# Altium integrated library Silicon Labs Clocks and Oscillators.IntLib: 678 symbols (part 3 of 45)
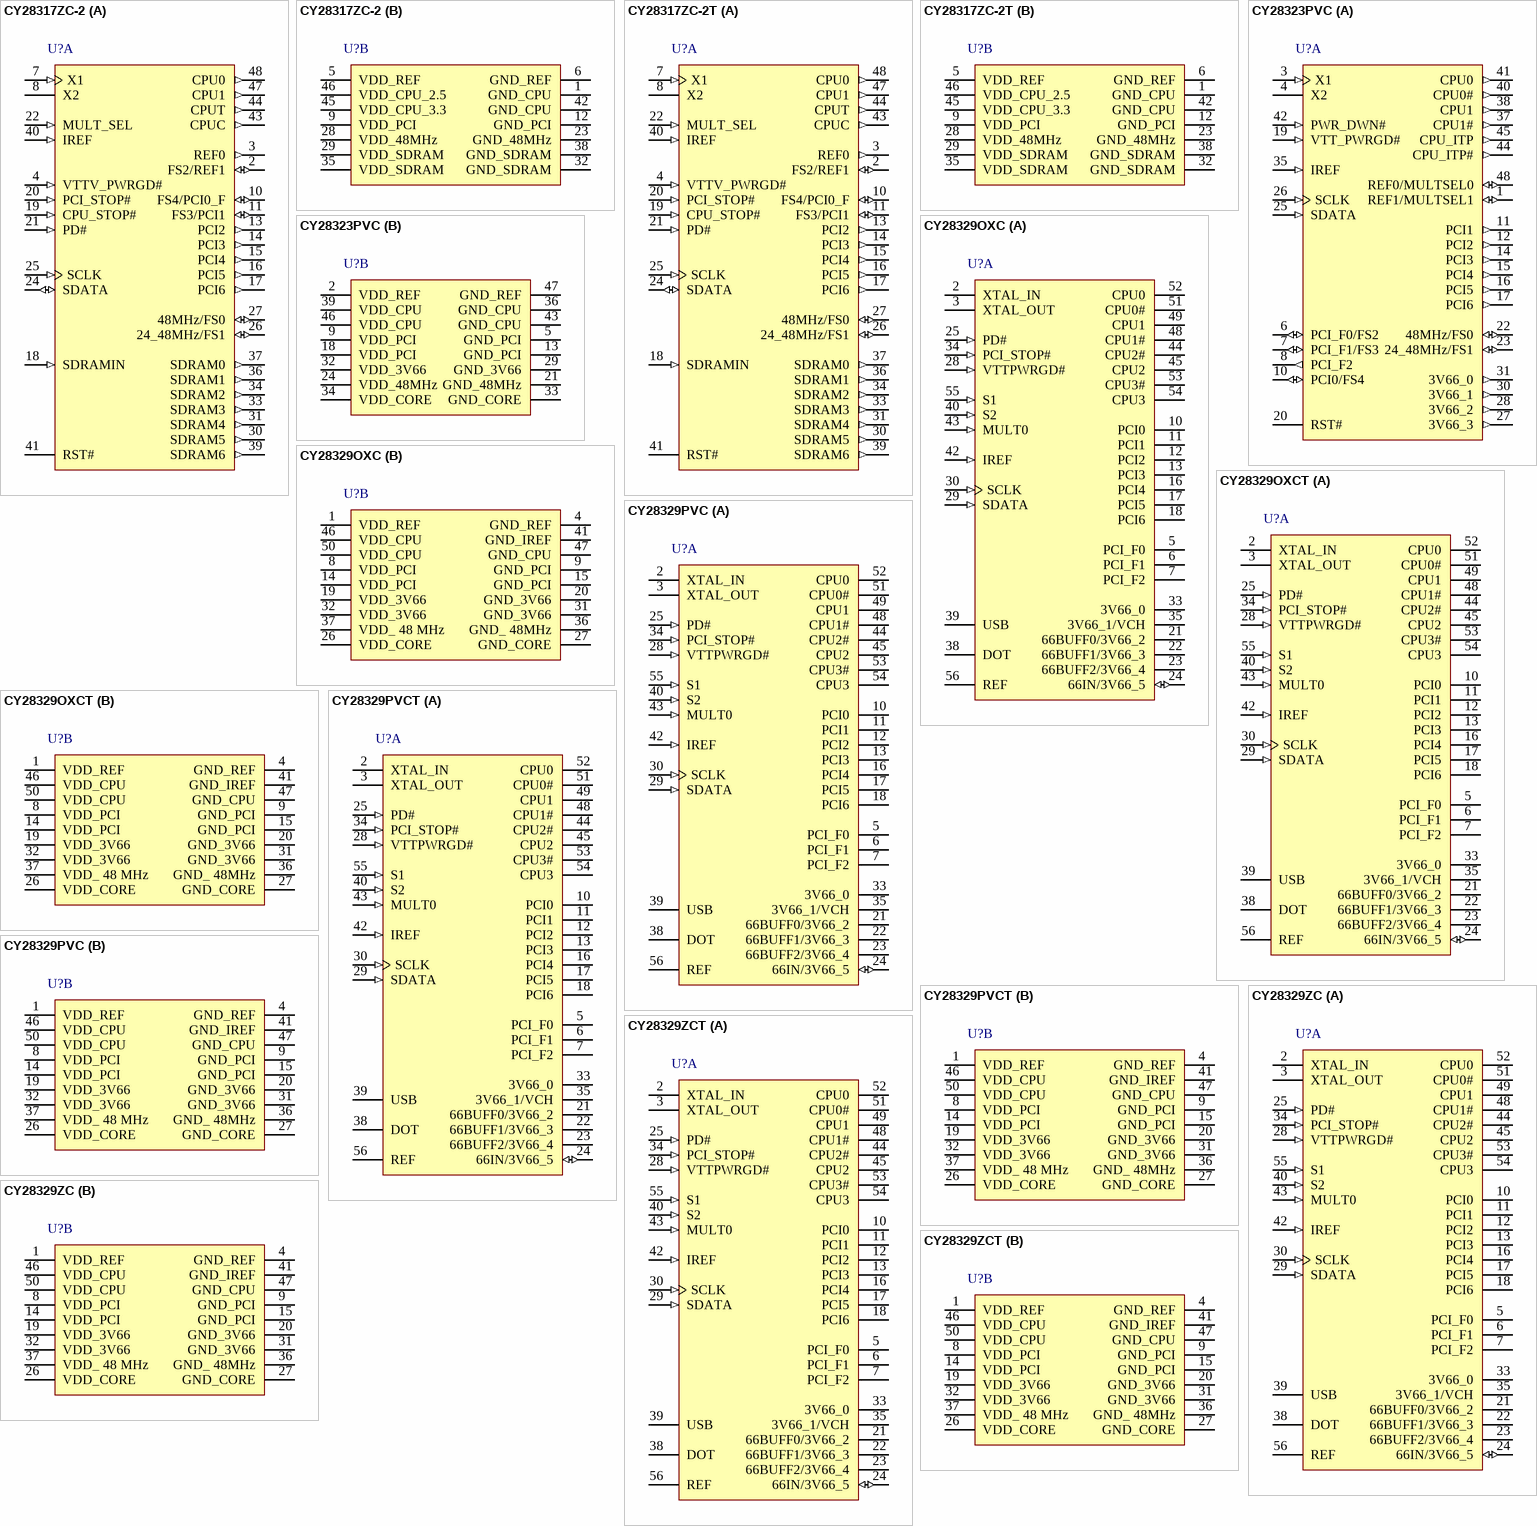
[diagram p46: symbols CY28317ZC-2 to CY28329ZCT]

## CY28323PVC
designator U?
FTG for Intel(R) Pentium(R) 4 CPU and Chipsets, 3.3 V, 200 MHz Max Output, 0 to 70 degC, 48-pin SOP; Manufacturer: Silicon Labs; PartNumber: CY28323PVC; Output Format: LVCMOS; HCSL; Output Frequency (MHz): 14.318; 24; 31.5 to 41; 48; 63 to 82; 66 to 200; Reference Inputs: 1; VDD: 3.3 V; Sub-Family: Clock Generators; DatasheetVersion: Rev. *B; PackageReference: SSOP-48; PackageDescription: 48-Pin Shrink Small-Outline Package, Body 15.875 x 7.51 mm, Pitch 0.635 mm; Mounting Technology: Surface Mount; ComponentLink1Description: Manufacturer URL; ComponentLink1URL: http://www.silabs.com/; ComponentLink2Description: Datasheet; ComponentLink2URL: http://www.silabs.com/Support%20Documents/TechnicalDocs/CY28323.pdf; ComponentLink3Description: Package Specification; ComponentLink3URL: http://www.silabs.com/Support%20Documents/TechnicalDocs/W255.pdf
footprint SLAB-SSOP-48_N (SOP, 48-Leads, Body 16x7.6mm, Pitch 0.635mm, IPC Medium Density)
footprint SLAB-SSOP-48_L (SOP, 48-Leads, Body 16x7.6mm, Pitch 0.635mm, IPC High Density)
footprint SLAB-SSOP-48_M (SOP, 48-Leads, Body 16x7.6mm, Pitch 0.635mm, IPC Low Density)
part A pins: 1 REF1/MULTSEL1 (io), 3 X1 (in) "Crystal Connection or External Reference Frequency Input: This pin has dual functions. It can be used as an external 14.318-MHz crystal connection or as an external reference frequency input.", 4 X2 "Crystal Connection: Connection for an external 14.318-MHz crystal. If using an external reference, this pin must be left unconnected.", 6 PCI_F0/FS2 (io), 7 PCI_F1/FS3 (io), 8 PCI_F2 (out) "Free-running PCI Output 2: 3.3V free-running PCI output.", 10 PCI0/FS4 (io), 11 PCI1 (out) "PCI Clock Output 1 to 6: 3.3V PCI clock outputs.", 12 PCI2 (out) "PCI Clock Output 1 to 6: 3.3V PCI clock outputs.", 14 PCI3 (out) "PCI Clock Output 1 to 6: 3.3V PCI clock outputs.", 15 PCI4 (out) "PCI Clock Output 1 to 6: 3.3V PCI clock outputs.", 16 PCI5 (out) "PCI Clock Output 1 to 6: 3.3V PCI clock outputs.", 17 PCI6 (out) "PCI Clock Output 1 to 6: 3.3V PCI clock outputs.", 19 VTT_PWRGD# (in) "Powergood from Voltage Regulator Module (VRM): 3.3V LVTTL input. VTT_PWRGD# is a level-sensitive strobe used to determine when FS0:4 and MULTSEL0:1 inputs are valid and OK to be sampled (Active LOW). Once VTT_PWRGD# is (See Datasheet)", 20 RST# (oc) "System Reset Output: Open-drain system reset output.", 22 48MHz/FS0 (io), 23 24_48MHz/FS1 (io), 25 SDATA (in) "SMBus Data Input: Data pin for serial interface.", 26 SCLK (in) "SMBus Clock Input: Clock pin for serial interface.", 27 3V66_3 (out) "66-MHz Clock Outputs: 3.3V fixed 66-MHz clock.", 28 3V66_2 (out) "66-MHz Clock Outputs: 3.3V fixed 66-MHz clock.", 30 3V66_1 (out) "66-MHz Clock Outputs: 3.3V fixed 66-MHz clock.", 31 3V66_0 (out) "66-MHz Clock Outputs: 3.3V fixed 66-MHz clock.", 35 IREF (in) "Current Reference for CPU Output: A precision resistor is attached to this pin which is connected to the internal current reference.", 37 CPU1# (out) "CPU Clock Outputs: Frequency is set by the FS0:4 inputs or through serial input interface.", 38 CPU1 (out) "CPU Clock Outputs: Frequency is set by the FS0:4 inputs or through serial input interface.", 40 CPU0# (out) "CPU Clock Outputs: Frequency is set by the FS0:4 inputs or through serial input interface.", 41 CPU0 (out) "CPU Clock Outputs: Frequency is set by the FS0:4 inputs or through serial input interface.", 42 PWR_DWN# (in) "Power Down Control: 3.3V LVTTL-compatible input that places the device in power-down mode when held LOW.", 44 CPU_ITP# (out) "CPU Clock Output for ITP: Frequency is set by the FS0:4 inputs or through serial input interface.", 45 CPU_ITP (out) "CPU Clock Output for ITP: Frequency is set by the FS0:4 inputs or through serial input interface.", 48 REF0/MULTSEL0 (io)
part B pins: 2 VDD_REF (power) "3.3V Power Connection: Power supply for CPU outputs buffers, 3V66 output buffers, PCI output buffers, reference output buffers and 48-MHz output buffers. Connect to 3.3V.", 5 GND_PCI (power) "Ground Connection: Connect all ground pins to the common system ground plane.", 9 VDD_PCI (power), 13 GND_PCI (power) "Ground Connection: Connect all ground pins to the common system ground plane.", 18 VDD_PCI (power) "3.3V Power Connection: Power supply for CPU outputs buffers, 3V66 output buffers, PCI output buffers, reference output buffers and 48-MHz output buffers. Connect to 3.3V.", 21 GND_48MHz (power) "Ground Connection: Connect all ground pins to the common system ground plane.", 24 VDD_48MHz (power) "3.3V Power Connection: Power supply for CPU outputs buffers, 3V66 output buffers, PCI output buffers, reference output buffers and 48-MHz output buffers. Connect to 3.3V.", 29 GND_3V66 (power) "Ground Connection: Connect all ground pins to the common system ground plane.", 32 VDD_3V66 (power) "3.3V Power Connection: Power supply for CPU outputs buffers, 3V66 output buffers, PCI output buffers, reference output buffers and 48-MHz output buffers. Connect to 3.3V.", 33 GND_CORE (power) "Analog Ground Connection: Ground for core logic, PLL circuitry.", 34 VDD_CORE (power) "3.3V Analog Power Connection: Power supply for core logic, PLL circuitry. Connect to 3.3V.", 36 GND_CPU (power) "Ground Connection: Connect all ground pins to the common system ground plane.", 39 VDD_CPU (power) "3.3V Power Connection: Power supply for CPU outputs buffers, 3V66 output buffers, PCI output buffers, reference output buffers and 48-MHz output buffers. Connect to 3.3V.", 43 GND_CPU (power) "Ground Connection: Connect all ground pins to the common system ground plane.", 46 VDD_CPU (power) "3.3V Power Connection: Power supply for CPU outputs buffers, 3V66 output buffers, PCI output buffers, reference output buffers and 48-MHz output buffers. Connect to 3.3V.", 47 GND_REF (power) "Ground Connection: Connect all ground pins to the common system ground plane."

## CY28329OXC
designator U?
Spread Spectrum Clock Synthesizer / Driver with Differential CPU Outputs, 3.3 V, 133 MHz Max Output, 0 to 70 degC, 56-pin SOP; Manufacturer: Silicon Labs; PartNumber: CY28329OXC; Output Format: LVCMOS; HCSL; Output Frequency (MHz): 14.318 ; 33 ; 48 ; 66 ; 100 to 133; Reference Inputs: 1; VDD: 3.3 V; Sub-Family: Clock Generators; DatasheetVersion: Rev. *E; PackageReference: SSOP-56; PackageDescription: 56-Pin Shrink Small-Outline Package, Body 18.415 x 7.51 mm, Pitch 0.635 mm; Supplier 1: Digi-Key; Supplier Part Number 1: SLCY28329OXC-ND; Supplier 2: Mouser; Supplier Part Number 2: 634-CY28329OXC; Mounting Technology: Surface Mount; ComponentLink1Description: Manufacturer URL; ComponentLink1URL: http://www.silabs.com/; ComponentLink2Description: Datasheet; ComponentLink2URL: http://www.silabs.com/Support%20Documents/TechnicalDocs/CY28329.pdf; ComponentLink3Description: Package Specification; ComponentLink3URL: http://www.silabs.com/Support%20Documents/TechnicalDocs/W158.pdf
footprint SLAB-SSOP-56_N (SOP, 56-Leads, Body 18.5x7.6mm, Pitch 0.635mm, IPC Medium Density)
footprint SLAB-SSOP-56_L (SOP, 56-Leads, Body 18.5x7.6mm, Pitch 0.635mm, IPC High Density)
footprint SLAB-SSOP-56_M (SOP, 56-Leads, Body 18.5x7.6mm, Pitch 0.635mm, IPC Low Density)
part A pins: 2 XTAL_IN "14.318 MHz crystal input", 3 XTAL_OUT "14.318 MHz crystal input", 5 PCI_F0 (hiz) "33 MHz clocks divided down from 66Input or divided down from 3V66", 6 PCI_F1 (hiz) "34 MHz clocks divided down from 66Input or divided down from 3V66", 7 PCI_F2 (hiz) "35 MHz clocks divided down from 66Input or divided down from 3V66", 10 PCI0 (hiz) "PCI clock outputs divided down from 66Input or divided down from 3V66", 11 PCI1 (hiz) "PCI clock outputs divided down from 66Input or divided down from 3V66", 12 PCI2 (hiz) "PCI clock outputs divided down from 66Input or divided down from 3V66", 13 PCI3 (hiz) "PCI clock outputs divided down from 66Input or divided down from 3V66", 16 PCI4 (hiz) "PCI clock outputs divided down from 66Input or divided down from 3V66", 17 PCI5 (hiz) "PCI clock outputs divided down from 66Input or divided down from 3V66", 18 PCI6 (hiz) "PCI clock outputs divided down from 66Input or divided down from 3V66", 21 66BUFF0/3V66_2 (hiz), 22 66BUFF1/3V66_3 (hiz), 23 66BUFF2/3V66_4 (hiz), 24 66IN/3V66_5 (io), 25 PD# (in) "3.3V LVTTL input for Power_Down# (active LOW). Do not add any decoupling capacitors. Use an external 1.0-Kohm pull-up resistor.", 28 VTTPWRGD# (in) "3.3V LVTTL input is a level-sensitive strobe used to determine when S[1:2] and MULT0 inputs are valid and OK to be sampled (Active LOW). Once VTTPWRGD# is sampled LOW, the status of this output will be ignored.", 29 SDATA (in) "SMBus-compatible SDATA", 30 SCLK (in) "SMBus-compatible Sclk", 33 3V66_0 (hiz) "3.3V 66 MHz clock output", 34 PCI_STOP# (in) "3.3V LVTTL input for PCI_STOP# (active LOW)", 35 3V66_1/VCH (hiz) "3.3V selectable through SMBus to be 66 MHz or 48 MHz", 38 DOT (hiz) "Fixed 48 MHz clock output", 39 USB (hiz) "Fixed 48 MHz clock output", 40 S2 (in) "Special 3.3V 3-level input for Mode selection", 42 IREF (in) "A precision resistor is attached to this pin which is connected to the internal current reference", 43 MULT0 (in) "3.3V LVTTL input for selecting the current multiplier for the CPU outputs", 44 CPU2# (hiz) "Differential CPU clock outputs", 45 CPU2 (hiz) "Differential CPU clock outputs", 48 CPU1# (hiz) "Differential CPU clock outputs", 49 CPU1 (hiz) "Differential CPU clock outputs", 51 CPU0# (hiz) "Differential CPU clock outputs", 52 CPU0 (hiz) "Differential CPU clock outputs", 53 CPU3# (hiz) "Differential CPU clock outputs", 54 CPU3 (hiz) "Differential CPU clock outputs", 55 S1 (in) "3.3V LVTTL inputs for CPU frequency selection", 56 REF (hiz) "3.3V 14.318 MHz clock output"
part B pins: 1 VDD_REF (power) "3.3V power supply for outputs", 4 GND_REF (power) "Ground for outputs", 8 VDD_PCI (power) "3.3V power supply for outputs", 9 GND_PCI (power) "Ground for outputs", 14 VDD_PCI (power) "3.3V power supply for outputs", 15 GND_PCI (power) "Ground for outputs", 19 VDD_3V66 (power) "3.3V power supply for outputs", 20 GND_3V66 (power) "Ground for outputs", 26 VDD_CORE (power) "3.3V power supply for PLL", 27 GND_CORE (power) "Ground for PLL", 31 GND_3V66 (power) "Ground for outputs", 32 VDD_3V66 (power) "3.3V power supply for outputs", 36 GND_ 48MHz (power) "Ground for outputs", 37 VDD_ 48 MHz (power) "3.3V power supply for outputs", 41 GND_IREF (power) "Ground for outputs", 46 VDD_CPU (power) "3.3V power supply for outputs", 47 GND_CPU (power) "Ground for outputs", 50 VDD_CPU (power) "3.3V power supply for outputs"

## CY28329OXCT
designator U?
Spread Spectrum Clock Synthesizer / Driver with Differential CPU Outputs, 3.3 V, 133 MHz Max Output, 0 to 70 degC, 56-pin SOP, Tape and Reel; Manufacturer: Silicon Labs; PartNumber: CY28329OXCT; Output Format: LVCMOS; HCSL; Output Frequency (MHz): 14.318 ; 33 ; 48 ; 66 ; 100 to 133; Phase Jitter (RMS): > 1 ps; Reference Inputs: 1; VDD: 3.3 V; Sub-Family: Clock Generators; DatasheetVersion: Rev. *E; PackageReference: SSOP-56; PackageDescription: 56-Pin Shrink Small-Outline Package, Body 18.415 x 7.51 mm, Pitch 0.635 mm; Supplier 1: Digi-Key; Supplier Part Number 1: SLCY28329OXCT-ND; Supplier 2: Mouser; Supplier Part Number 2: 634-CY28329OXCT; Packing: Tape and Reel; Mounting Technology: Surface Mount; ComponentLink1Description: Manufacturer URL; ComponentLink1URL: http://www.silabs.com/; ComponentLink2Description: Datasheet; ComponentLink2URL: http://www.silabs.com/Support%20Documents/TechnicalDocs/CY28329.pdf; ComponentLink3Description: Package Specification; ComponentLink3URL: http://www.silabs.com/Support%20Documents/TechnicalDocs/W158.pdf
footprint SLAB-SSOP-56_N (SOP, 56-Leads, Body 18.5x7.6mm, Pitch 0.635mm, IPC Medium Density)
footprint SLAB-SSOP-56_L (SOP, 56-Leads, Body 18.5x7.6mm, Pitch 0.635mm, IPC High Density)
footprint SLAB-SSOP-56_M (SOP, 56-Leads, Body 18.5x7.6mm, Pitch 0.635mm, IPC Low Density)
part A pins: 2 XTAL_IN "14.318 MHz crystal input", 3 XTAL_OUT "14.318 MHz crystal input", 5 PCI_F0 (hiz) "33 MHz clocks divided down from 66Input or divided down from 3V66", 6 PCI_F1 (hiz) "34 MHz clocks divided down from 66Input or divided down from 3V66", 7 PCI_F2 (hiz) "35 MHz clocks divided down from 66Input or divided down from 3V66", 10 PCI0 (hiz) "PCI clock outputs divided down from 66Input or divided down from 3V66", 11 PCI1 (hiz) "PCI clock outputs divided down from 66Input or divided down from 3V66", 12 PCI2 (hiz) "PCI clock outputs divided down from 66Input or divided down from 3V66", 13 PCI3 (hiz) "PCI clock outputs divided down from 66Input or divided down from 3V66", 16 PCI4 (hiz) "PCI clock outputs divided down from 66Input or divided down from 3V66", 17 PCI5 (hiz) "PCI clock outputs divided down from 66Input or divided down from 3V66", 18 PCI6 (hiz) "PCI clock outputs divided down from 66Input or divided down from 3V66", 21 66BUFF0/3V66_2 (hiz), 22 66BUFF1/3V66_3 (hiz), 23 66BUFF2/3V66_4 (hiz), 24 66IN/3V66_5 (io), 25 PD# (in) "3.3V LVTTL input for Power_Down# (active LOW). Do not add any decoupling capacitors. Use an external 1.0-Kohm pull-up resistor.", 28 VTTPWRGD# (in) "3.3V LVTTL input is a level-sensitive strobe used to determine when S[1:2] and MULT0 inputs are valid and OK to be sampled (Active LOW). Once VTTPWRGD# is sampled LOW, the status of this output will be ignored.", 29 SDATA (in) "SMBus-compatible SDATA", 30 SCLK (in) "SMBus-compatible Sclk", 33 3V66_0 (hiz) "3.3V 66 MHz clock output", 34 PCI_STOP# (in) "3.3V LVTTL input for PCI_STOP# (active LOW)", 35 3V66_1/VCH (hiz) "3.3V selectable through SMBus to be 66 MHz or 48 MHz", 38 DOT (hiz) "Fixed 48 MHz clock output", 39 USB (hiz) "Fixed 48 MHz clock output", 40 S2 (in) "Special 3.3V 3-level input for Mode selection", 42 IREF (in) "A precision resistor is attached to this pin which is connected to the internal current reference", 43 MULT0 (in) "3.3V LVTTL input for selecting the current multiplier for the CPU outputs", 44 CPU2# (hiz) "Differential CPU clock outputs", 45 CPU2 (hiz) "Differential CPU clock outputs", 48 CPU1# (hiz) "Differential CPU clock outputs", 49 CPU1 (hiz) "Differential CPU clock outputs", 51 CPU0# (hiz) "Differential CPU clock outputs", 52 CPU0 (hiz) "Differential CPU clock outputs", 53 CPU3# (hiz) "Differential CPU clock outputs", 54 CPU3 (hiz) "Differential CPU clock outputs", 55 S1 (in) "3.3V LVTTL inputs for CPU frequency selection", 56 REF (hiz) "3.3V 14.318 MHz clock output"
part B pins: 1 VDD_REF (power) "3.3V power supply for outputs", 4 GND_REF (power) "Ground for outputs", 8 VDD_PCI (power) "3.3V power supply for outputs", 9 GND_PCI (power) "Ground for outputs", 14 VDD_PCI (power) "3.3V power supply for outputs", 15 GND_PCI (power) "Ground for outputs", 19 VDD_3V66 (power) "3.3V power supply for outputs", 20 GND_3V66 (power) "Ground for outputs", 26 VDD_CORE (power) "3.3V power supply for PLL", 27 GND_CORE (power) "Ground for PLL", 31 GND_3V66 (power) "Ground for outputs", 32 VDD_3V66 (power) "3.3V power supply for outputs", 36 GND_ 48MHz (power) "Ground for outputs", 37 VDD_ 48 MHz (power) "3.3V power supply for outputs", 41 GND_IREF (power) "Ground for outputs", 46 VDD_CPU (power) "3.3V power supply for outputs", 47 GND_CPU (power) "Ground for outputs", 50 VDD_CPU (power) "3.3V power supply for outputs"

## CY28329PVC
designator U?
Spread Spectrum Clock Synthesizer / Driver with Differential CPU Outputs, 3.3 V, 133 MHz Max Output, 0 to 70 degC, 56-pin SOP; Manufacturer: Silicon Labs; PartNumber: CY28329PVC; Output Format: LVCMOS; HCSL; Output Frequency (MHz): 14.318 ; 33 ; 48 ; 66 ; 100 to 133; Reference Inputs: 1; VDD: 3.3 V; Sub-Family: Clock Generators; DatasheetVersion: Rev. *E; PackageReference: SSOP-56; PackageDescription: 56-Pin Shrink Small-Outline Package, Body 18.415 x 7.51 mm, Pitch 0.635 mm; Mounting Technology: Surface Mount; ComponentLink1Description: Manufacturer URL; ComponentLink1URL: http://www.silabs.com/; ComponentLink2Description: Datasheet; ComponentLink2URL: http://www.silabs.com/Support%20Documents/TechnicalDocs/CY28329.pdf; ComponentLink3Description: Package Specification; ComponentLink3URL: http://www.silabs.com/Support%20Documents/TechnicalDocs/W158.pdf
footprint SLAB-SSOP-56_N (SOP, 56-Leads, Body 18.5x7.6mm, Pitch 0.635mm, IPC Medium Density)
footprint SLAB-SSOP-56_L (SOP, 56-Leads, Body 18.5x7.6mm, Pitch 0.635mm, IPC High Density)
footprint SLAB-SSOP-56_M (SOP, 56-Leads, Body 18.5x7.6mm, Pitch 0.635mm, IPC Low Density)
part A pins: 2 XTAL_IN "14.318 MHz crystal input", 3 XTAL_OUT "14.318 MHz crystal input", 5 PCI_F0 (hiz) "33 MHz clocks divided down from 66Input or divided down from 3V66", 6 PCI_F1 (hiz) "34 MHz clocks divided down from 66Input or divided down from 3V66", 7 PCI_F2 (hiz) "35 MHz clocks divided down from 66Input or divided down from 3V66", 10 PCI0 (hiz) "PCI clock outputs divided down from 66Input or divided down from 3V66", 11 PCI1 (hiz) "PCI clock outputs divided down from 66Input or divided down from 3V66", 12 PCI2 (hiz) "PCI clock outputs divided down from 66Input or divided down from 3V66", 13 PCI3 (hiz) "PCI clock outputs divided down from 66Input or divided down from 3V66", 16 PCI4 (hiz) "PCI clock outputs divided down from 66Input or divided down from 3V66", 17 PCI5 (hiz) "PCI clock outputs divided down from 66Input or divided down from 3V66", 18 PCI6 (hiz) "PCI clock outputs divided down from 66Input or divided down from 3V66", 21 66BUFF0/3V66_2 (hiz), 22 66BUFF1/3V66_3 (hiz), 23 66BUFF2/3V66_4 (hiz), 24 66IN/3V66_5 (io), 25 PD# (in) "3.3V LVTTL input for Power_Down# (active LOW). Do not add any decoupling capacitors. Use an external 1.0-Kohm pull-up resistor.", 28 VTTPWRGD# (in) "3.3V LVTTL input is a level-sensitive strobe used to determine when S[1:2] and MULT0 inputs are valid and OK to be sampled (Active LOW). Once VTTPWRGD# is sampled LOW, the status of this output will be ignored.", 29 SDATA (in) "SMBus-compatible SDATA", 30 SCLK (in) "SMBus-compatible Sclk", 33 3V66_0 (hiz) "3.3V 66 MHz clock output", 34 PCI_STOP# (in) "3.3V LVTTL input for PCI_STOP# (active LOW)", 35 3V66_1/VCH (hiz) "3.3V selectable through SMBus to be 66 MHz or 48 MHz", 38 DOT (hiz) "Fixed 48 MHz clock output", 39 USB (hiz) "Fixed 48 MHz clock output", 40 S2 (in) "Special 3.3V 3-level input for Mode selection", 42 IREF (in) "A precision resistor is attached to this pin which is connected to the internal current reference", 43 MULT0 (in) "3.3V LVTTL input for selecting the current multiplier for the CPU outputs", 44 CPU2# (hiz) "Differential CPU clock outputs", 45 CPU2 (hiz) "Differential CPU clock outputs", 48 CPU1# (hiz) "Differential CPU clock outputs", 49 CPU1 (hiz) "Differential CPU clock outputs", 51 CPU0# (hiz) "Differential CPU clock outputs", 52 CPU0 (hiz) "Differential CPU clock outputs", 53 CPU3# (hiz) "Differential CPU clock outputs", 54 CPU3 (hiz) "Differential CPU clock outputs", 55 S1 (in) "3.3V LVTTL inputs for CPU frequency selection", 56 REF (hiz) "3.3V 14.318 MHz clock output"
part B pins: 1 VDD_REF (power) "3.3V power supply for outputs", 4 GND_REF (power) "Ground for outputs", 8 VDD_PCI (power) "3.3V power supply for outputs", 9 GND_PCI (power) "Ground for outputs", 14 VDD_PCI (power) "3.3V power supply for outputs", 15 GND_PCI (power) "Ground for outputs", 19 VDD_3V66 (power) "3.3V power supply for outputs", 20 GND_3V66 (power) "Ground for outputs", 26 VDD_CORE (power) "3.3V power supply for PLL", 27 GND_CORE (power) "Ground for PLL", 31 GND_3V66 (power) "Ground for outputs", 32 VDD_3V66 (power) "3.3V power supply for outputs", 36 GND_ 48MHz (power) "Ground for outputs", 37 VDD_ 48 MHz (power) "3.3V power supply for outputs", 41 GND_IREF (power) "Ground for outputs", 46 VDD_CPU (power) "3.3V power supply for outputs", 47 GND_CPU (power) "Ground for outputs", 50 VDD_CPU (power) "3.3V power supply for outputs"

## CY28329PVCT
designator U?
Spread Spectrum Clock Synthesizer / Driver with Differential CPU Outputs, 3.3 V, 133 MHz Max Output, 0 to 70 degC, 56-pin SOP, Tape and Reel; Manufacturer: Silicon Labs; PartNumber: CY28329PVCT; Output Format: LVCMOS; HCSL; Output Frequency (MHz): 14.318 ; 33 ; 48 ; 66 ; 100 to 133; Phase Jitter (RMS): > 1 ps; Reference Inputs: 1; VDD: 3.3 V; Sub-Family: Clock Generators; DatasheetVersion: Rev. *E; PackageReference: SSOP-56; PackageDescription: 56-Pin Shrink Small-Outline Package, Body 18.415 x 7.51 mm, Pitch 0.635 mm; Packing: Tape and Reel; Mounting Technology: Surface Mount; ComponentLink1Description: Manufacturer URL; ComponentLink1URL: http://www.silabs.com/; ComponentLink2Description: Datasheet; ComponentLink2URL: http://www.silabs.com/Support%20Documents/TechnicalDocs/CY28329.pdf; ComponentLink3Description: Package Specification; ComponentLink3URL: http://www.silabs.com/Support%20Documents/TechnicalDocs/W158.pdf
footprint SLAB-SSOP-56_N (SOP, 56-Leads, Body 18.5x7.6mm, Pitch 0.635mm, IPC Medium Density)
footprint SLAB-SSOP-56_L (SOP, 56-Leads, Body 18.5x7.6mm, Pitch 0.635mm, IPC High Density)
footprint SLAB-SSOP-56_M (SOP, 56-Leads, Body 18.5x7.6mm, Pitch 0.635mm, IPC Low Density)
part A pins: 2 XTAL_IN "14.318 MHz crystal input", 3 XTAL_OUT "14.318 MHz crystal input", 5 PCI_F0 (hiz) "33 MHz clocks divided down from 66Input or divided down from 3V66", 6 PCI_F1 (hiz) "34 MHz clocks divided down from 66Input or divided down from 3V66", 7 PCI_F2 (hiz) "35 MHz clocks divided down from 66Input or divided down from 3V66", 10 PCI0 (hiz) "PCI clock outputs divided down from 66Input or divided down from 3V66", 11 PCI1 (hiz) "PCI clock outputs divided down from 66Input or divided down from 3V66", 12 PCI2 (hiz) "PCI clock outputs divided down from 66Input or divided down from 3V66", 13 PCI3 (hiz) "PCI clock outputs divided down from 66Input or divided down from 3V66", 16 PCI4 (hiz) "PCI clock outputs divided down from 66Input or divided down from 3V66", 17 PCI5 (hiz) "PCI clock outputs divided down from 66Input or divided down from 3V66", 18 PCI6 (hiz) "PCI clock outputs divided down from 66Input or divided down from 3V66", 21 66BUFF0/3V66_2 (hiz), 22 66BUFF1/3V66_3 (hiz), 23 66BUFF2/3V66_4 (hiz), 24 66IN/3V66_5 (io), 25 PD# (in) "3.3V LVTTL input for Power_Down# (active LOW). Do not add any decoupling capacitors. Use an external 1.0-Kohm pull-up resistor.", 28 VTTPWRGD# (in) "3.3V LVTTL input is a level-sensitive strobe used to determine when S[1:2] and MULT0 inputs are valid and OK to be sampled (Active LOW). Once VTTPWRGD# is sampled LOW, the status of this output will be ignored.", 29 SDATA (in) "SMBus-compatible SDATA", 30 SCLK (in) "SMBus-compatible Sclk", 33 3V66_0 (hiz) "3.3V 66 MHz clock output", 34 PCI_STOP# (in) "3.3V LVTTL input for PCI_STOP# (active LOW)", 35 3V66_1/VCH (hiz) "3.3V selectable through SMBus to be 66 MHz or 48 MHz", 38 DOT (hiz) "Fixed 48 MHz clock output", 39 USB (hiz) "Fixed 48 MHz clock output", 40 S2 (in) "Special 3.3V 3-level input for Mode selection", 42 IREF (in) "A precision resistor is attached to this pin which is connected to the internal current reference", 43 MULT0 (in) "3.3V LVTTL input for selecting the current multiplier for the CPU outputs", 44 CPU2# (hiz) "Differential CPU clock outputs", 45 CPU2 (hiz) "Differential CPU clock outputs", 48 CPU1# (hiz) "Differential CPU clock outputs", 49 CPU1 (hiz) "Differential CPU clock outputs", 51 CPU0# (hiz) "Differential CPU clock outputs", 52 CPU0 (hiz) "Differential CPU clock outputs", 53 CPU3# (hiz) "Differential CPU clock outputs", 54 CPU3 (hiz) "Differential CPU clock outputs", 55 S1 (in) "3.3V LVTTL inputs for CPU frequency selection", 56 REF (hiz) "3.3V 14.318 MHz clock output"
part B pins: 1 VDD_REF (power) "3.3V power supply for outputs", 4 GND_REF (power) "Ground for outputs", 8 VDD_PCI (power) "3.3V power supply for outputs", 9 GND_PCI (power) "Ground for outputs", 14 VDD_PCI (power) "3.3V power supply for outputs", 15 GND_PCI (power) "Ground for outputs", 19 VDD_3V66 (power) "3.3V power supply for outputs", 20 GND_3V66 (power) "Ground for outputs", 26 VDD_CORE (power) "3.3V power supply for PLL", 27 GND_CORE (power) "Ground for PLL", 31 GND_3V66 (power) "Ground for outputs", 32 VDD_3V66 (power) "3.3V power supply for outputs", 36 GND_ 48MHz (power) "Ground for outputs", 37 VDD_ 48 MHz (power) "3.3V power supply for outputs", 41 GND_IREF (power) "Ground for outputs", 46 VDD_CPU (power) "3.3V power supply for outputs", 47 GND_CPU (power) "Ground for outputs", 50 VDD_CPU (power) "3.3V power supply for outputs"

## CY28329ZC
designator U?
Spread Spectrum Clock Synthesizer / Driver with Differential CPU Outputs, 3.3 V, 133 MHz Max Output, 0 to 70 degC, 56-pin SOP; Manufacturer: Silicon Labs; PartNumber: CY28329ZC; Output Format: LVCMOS; HCSL; Output Frequency (MHz): 14.318 ; 33 ; 48 ; 66 ; 100 to 133; Reference Inputs: 1; VDD: 3.3 V; Sub-Family: Clock Generators; DatasheetVersion: Rev. *E; PackageReference: TSSOP-56; PackageDescription: 56-Pin Thin Shrink Small-Outline Package, Body 14 x 6.1 mm, Pitch 0.5 mm; Mounting Technology: Surface Mount; Code_JEDEC: MO-153; ComponentLink1Description: Manufacturer URL; ComponentLink1URL: http://www.silabs.com/; ComponentLink2Description: Datasheet; ComponentLink2URL: http://www.silabs.com/Support%20Documents/TechnicalDocs/CY28329.pdf; ComponentLink3Description: Package Specification; ComponentLink3URL: http://www.silabs.com/Support%20Documents/TechnicalDocs/CY28346-2.pdf
footprint SLAB-TSSOP-56_N (SOP, 56-Leads, Body 14.1x6.2mm, Pitch 0.5mm, IPC Medium Density)
footprint SLAB-TSSOP-56_L (SOP, 56-Leads, Body 14.1x6.2mm, Pitch 0.5mm, IPC High Density)
footprint SLAB-TSSOP-56_M (SOP, 56-Leads, Body 14.1x6.2mm, Pitch 0.5mm, IPC Low Density)
part A pins: 2 XTAL_IN "14.318 MHz crystal input", 3 XTAL_OUT "14.318 MHz crystal input", 5 PCI_F0 (hiz) "33 MHz clocks divided down from 66Input or divided down from 3V66", 6 PCI_F1 (hiz) "34 MHz clocks divided down from 66Input or divided down from 3V66", 7 PCI_F2 (hiz) "35 MHz clocks divided down from 66Input or divided down from 3V66", 10 PCI0 (hiz) "PCI clock outputs divided down from 66Input or divided down from 3V66", 11 PCI1 (hiz) "PCI clock outputs divided down from 66Input or divided down from 3V66", 12 PCI2 (hiz) "PCI clock outputs divided down from 66Input or divided down from 3V66", 13 PCI3 (hiz) "PCI clock outputs divided down from 66Input or divided down from 3V66", 16 PCI4 (hiz) "PCI clock outputs divided down from 66Input or divided down from 3V66", 17 PCI5 (hiz) "PCI clock outputs divided down from 66Input or divided down from 3V66", 18 PCI6 (hiz) "PCI clock outputs divided down from 66Input or divided down from 3V66", 21 66BUFF0/3V66_2 (hiz), 22 66BUFF1/3V66_3 (hiz), 23 66BUFF2/3V66_4 (hiz), 24 66IN/3V66_5 (io), 25 PD# (in) "3.3V LVTTL input for Power_Down# (active LOW). Do not add any decoupling capacitors. Use an external 1.0-Kohm pull-up resistor.", 28 VTTPWRGD# (in) "3.3V LVTTL input is a level-sensitive strobe used to determine when S[1:2] and MULT0 inputs are valid and OK to be sampled (Active LOW). Once VTTPWRGD# is sampled LOW, the status of this output will be ignored.", 29 SDATA (in) "SMBus-compatible SDATA", 30 SCLK (in) "SMBus-compatible Sclk", 33 3V66_0 (hiz) "3.3V 66 MHz clock output", 34 PCI_STOP# (in) "3.3V LVTTL input for PCI_STOP# (active LOW)", 35 3V66_1/VCH (hiz) "3.3V selectable through SMBus to be 66 MHz or 48 MHz", 38 DOT (hiz) "Fixed 48 MHz clock output", 39 USB (hiz) "Fixed 48 MHz clock output", 40 S2 (in) "Special 3.3V 3-level input for Mode selection", 42 IREF (in) "A precision resistor is attached to this pin which is connected to the internal current reference", 43 MULT0 (in) "3.3V LVTTL input for selecting the current multiplier for the CPU outputs", 44 CPU2# (hiz) "Differential CPU clock outputs", 45 CPU2 (hiz) "Differential CPU clock outputs", 48 CPU1# (hiz) "Differential CPU clock outputs", 49 CPU1 (hiz) "Differential CPU clock outputs", 51 CPU0# (hiz) "Differential CPU clock outputs", 52 CPU0 (hiz) "Differential CPU clock outputs", 53 CPU3# (hiz) "Differential CPU clock outputs", 54 CPU3 (hiz) "Differential CPU clock outputs", 55 S1 (in) "3.3V LVTTL inputs for CPU frequency selection", 56 REF (hiz) "3.3V 14.318 MHz clock output"
part B pins: 1 VDD_REF (power) "3.3V power supply for outputs", 4 GND_REF (power) "Ground for outputs", 8 VDD_PCI (power) "3.3V power supply for outputs", 9 GND_PCI (power) "Ground for outputs", 14 VDD_PCI (power) "3.3V power supply for outputs", 15 GND_PCI (power) "Ground for outputs", 19 VDD_3V66 (power) "3.3V power supply for outputs", 20 GND_3V66 (power) "Ground for outputs", 26 VDD_CORE (power) "3.3V power supply for PLL", 27 GND_CORE (power) "Ground for PLL", 31 GND_3V66 (power) "Ground for outputs", 32 VDD_3V66 (power) "3.3V power supply for outputs", 36 GND_ 48MHz (power) "Ground for outputs", 37 VDD_ 48 MHz (power) "3.3V power supply for outputs", 41 GND_IREF (power) "Ground for outputs", 46 VDD_CPU (power) "3.3V power supply for outputs", 47 GND_CPU (power) "Ground for outputs", 50 VDD_CPU (power) "3.3V power supply for outputs"

## CY28329ZCT
designator U?
Spread Spectrum Clock Synthesizer / Driver with Differential CPU Outputs, 3.3 V, 133 MHz Max Output, 0 to 70 degC, 56-pin SOP, Tape and Reel; Manufacturer: Silicon Labs; PartNumber: CY28329ZCT; Output Format: LVCMOS; HCSL; Output Frequency (MHz): 14.318 ; 33 ; 48 ; 66 ; 100 to 133; Phase Jitter (RMS): > 1 ps; Reference Inputs: 1; VDD: 3.3 V; Sub-Family: Clock Generators; DatasheetVersion: Rev. *E; PackageReference: TSSOP-56; PackageDescription: 56-Pin Thin Shrink Small-Outline Package, Body 14 x 6.1 mm, Pitch 0.5 mm; Packing: Tape and Reel; Mounting Technology: Surface Mount; Code_JEDEC: MO-153; ComponentLink1Description: Manufacturer URL; ComponentLink1URL: http://www.silabs.com/; ComponentLink2Description: Datasheet; ComponentLink2URL: http://www.silabs.com/Support%20Documents/TechnicalDocs/CY28329.pdf; ComponentLink3Description: Package Specification; ComponentLink3URL: http://www.silabs.com/Support%20Documents/TechnicalDocs/CY28346-2.pdf
footprint SLAB-TSSOP-56_N (SOP, 56-Leads, Body 14.1x6.2mm, Pitch 0.5mm, IPC Medium Density)
footprint SLAB-TSSOP-56_L (SOP, 56-Leads, Body 14.1x6.2mm, Pitch 0.5mm, IPC High Density)
footprint SLAB-TSSOP-56_M (SOP, 56-Leads, Body 14.1x6.2mm, Pitch 0.5mm, IPC Low Density)
part A pins: 2 XTAL_IN "14.318 MHz crystal input", 3 XTAL_OUT "14.318 MHz crystal input", 5 PCI_F0 (hiz) "33 MHz clocks divided down from 66Input or divided down from 3V66", 6 PCI_F1 (hiz) "34 MHz clocks divided down from 66Input or divided down from 3V66", 7 PCI_F2 (hiz) "35 MHz clocks divided down from 66Input or divided down from 3V66", 10 PCI0 (hiz) "PCI clock outputs divided down from 66Input or divided down from 3V66", 11 PCI1 (hiz) "PCI clock outputs divided down from 66Input or divided down from 3V66", 12 PCI2 (hiz) "PCI clock outputs divided down from 66Input or divided down from 3V66", 13 PCI3 (hiz) "PCI clock outputs divided down from 66Input or divided down from 3V66", 16 PCI4 (hiz) "PCI clock outputs divided down from 66Input or divided down from 3V66", 17 PCI5 (hiz) "PCI clock outputs divided down from 66Input or divided down from 3V66", 18 PCI6 (hiz) "PCI clock outputs divided down from 66Input or divided down from 3V66", 21 66BUFF0/3V66_2 (hiz), 22 66BUFF1/3V66_3 (hiz), 23 66BUFF2/3V66_4 (hiz), 24 66IN/3V66_5 (io), 25 PD# (in) "3.3V LVTTL input for Power_Down# (active LOW). Do not add any decoupling capacitors. Use an external 1.0-Kohm pull-up resistor.", 28 VTTPWRGD# (in) "3.3V LVTTL input is a level-sensitive strobe used to determine when S[1:2] and MULT0 inputs are valid and OK to be sampled (Active LOW). Once VTTPWRGD# is sampled LOW, the status of this output will be ignored.", 29 SDATA (in) "SMBus-compatible SDATA", 30 SCLK (in) "SMBus-compatible Sclk", 33 3V66_0 (hiz) "3.3V 66 MHz clock output", 34 PCI_STOP# (in) "3.3V LVTTL input for PCI_STOP# (active LOW)", 35 3V66_1/VCH (hiz) "3.3V selectable through SMBus to be 66 MHz or 48 MHz", 38 DOT (hiz) "Fixed 48 MHz clock output", 39 USB (hiz) "Fixed 48 MHz clock output", 40 S2 (in) "Special 3.3V 3-level input for Mode selection", 42 IREF (in) "A precision resistor is attached to this pin which is connected to the internal current reference", 43 MULT0 (in) "3.3V LVTTL input for selecting the current multiplier for the CPU outputs", 44 CPU2# (hiz) "Differential CPU clock outputs", 45 CPU2 (hiz) "Differential CPU clock outputs", 48 CPU1# (hiz) "Differential CPU clock outputs", 49 CPU1 (hiz) "Differential CPU clock outputs", 51 CPU0# (hiz) "Differential CPU clock outputs", 52 CPU0 (hiz) "Differential CPU clock outputs", 53 CPU3# (hiz) "Differential CPU clock outputs", 54 CPU3 (hiz) "Differential CPU clock outputs", 55 S1 (in) "3.3V LVTTL inputs for CPU frequency selection", 56 REF (hiz) "3.3V 14.318 MHz clock output"
part B pins: 1 VDD_REF (power) "3.3V power supply for outputs", 4 GND_REF (power) "Ground for outputs", 8 VDD_PCI (power) "3.3V power supply for outputs", 9 GND_PCI (power) "Ground for outputs", 14 VDD_PCI (power) "3.3V power supply for outputs", 15 GND_PCI (power) "Ground for outputs", 19 VDD_3V66 (power) "3.3V power supply for outputs", 20 GND_3V66 (power) "Ground for outputs", 26 VDD_CORE (power) "3.3V power supply for PLL", 27 GND_CORE (power) "Ground for PLL", 31 GND_3V66 (power) "Ground for outputs", 32 VDD_3V66 (power) "3.3V power supply for outputs", 36 GND_ 48MHz (power) "Ground for outputs", 37 VDD_ 48 MHz (power) "3.3V power supply for outputs", 41 GND_IREF (power) "Ground for outputs", 46 VDD_CPU (power) "3.3V power supply for outputs", 47 GND_CPU (power) "Ground for outputs", 50 VDD_CPU (power) "3.3V power supply for outputs"

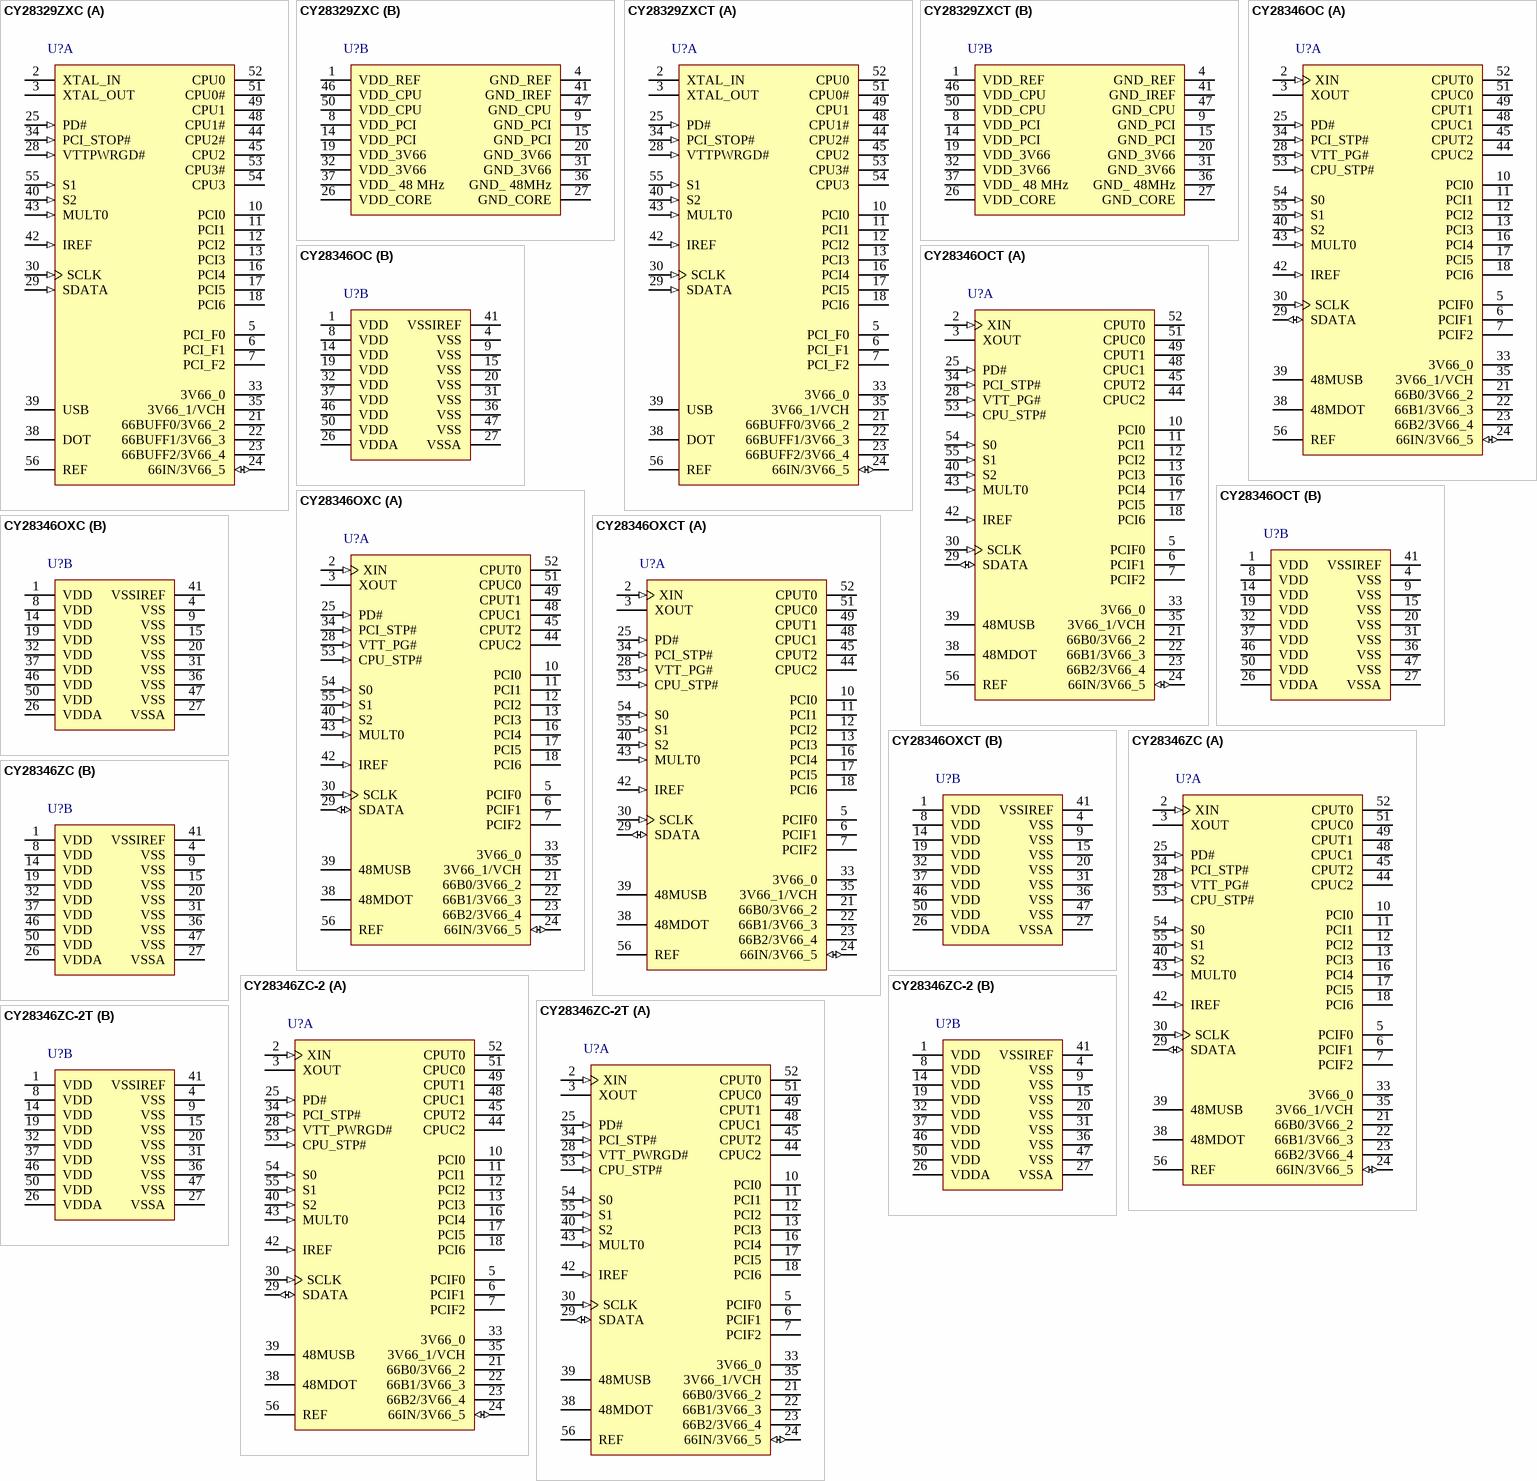
[diagram p3: symbols CY28329ZXC to CY28346ZC-2T]

## CY28329ZXC
designator U?
Spread Spectrum Clock Synthesizer / Driver with Differential CPU Outputs, 3.3 V, 133 MHz Max Output, 0 to 70 degC, 56-pin SOP; Manufacturer: Silicon Labs; PartNumber: CY28329ZXC; Output Format: LVCMOS; HCSL; Output Frequency (MHz): 14.318 ; 33 ; 48 ; 66 ; 100 to 133; Reference Inputs: 1; VDD: 3.3 V; Sub-Family: Clock Generators; DatasheetVersion: Rev. *E; PackageReference: TSSOP-56; PackageDescription: 56-Pin Thin Shrink Small-Outline Package, Body 14 x 6.1 mm, Pitch 0.5 mm; Supplier 1: Digi-Key; Supplier Part Number 1: SLCY28329ZXC-ND; Supplier 2: Mouser; Supplier Part Number 2: 634-CY28329ZXC; Mounting Technology: Surface Mount; Code_JEDEC: MO-153; ComponentLink1Description: Manufacturer URL; ComponentLink1URL: http://www.silabs.com/; ComponentLink2Description: Datasheet; ComponentLink2URL: http://www.silabs.com/Support%20Documents/TechnicalDocs/CY28329.pdf; ComponentLink3Description: Package Specification; ComponentLink3URL: http://www.silabs.com/Support%20Documents/TechnicalDocs/CY28346-2.pdf
footprint SLAB-TSSOP-56_N (SOP, 56-Leads, Body 14.1x6.2mm, Pitch 0.5mm, IPC Medium Density)
footprint SLAB-TSSOP-56_L (SOP, 56-Leads, Body 14.1x6.2mm, Pitch 0.5mm, IPC High Density)
footprint SLAB-TSSOP-56_M (SOP, 56-Leads, Body 14.1x6.2mm, Pitch 0.5mm, IPC Low Density)
part A pins: 2 XTAL_IN "14.318 MHz crystal input", 3 XTAL_OUT "14.318 MHz crystal input", 5 PCI_F0 (hiz) "33 MHz clocks divided down from 66Input or divided down from 3V66", 6 PCI_F1 (hiz) "34 MHz clocks divided down from 66Input or divided down from 3V66", 7 PCI_F2 (hiz) "35 MHz clocks divided down from 66Input or divided down from 3V66", 10 PCI0 (hiz) "PCI clock outputs divided down from 66Input or divided down from 3V66", 11 PCI1 (hiz) "PCI clock outputs divided down from 66Input or divided down from 3V66", 12 PCI2 (hiz) "PCI clock outputs divided down from 66Input or divided down from 3V66", 13 PCI3 (hiz) "PCI clock outputs divided down from 66Input or divided down from 3V66", 16 PCI4 (hiz) "PCI clock outputs divided down from 66Input or divided down from 3V66", 17 PCI5 (hiz) "PCI clock outputs divided down from 66Input or divided down from 3V66", 18 PCI6 (hiz) "PCI clock outputs divided down from 66Input or divided down from 3V66", 21 66BUFF0/3V66_2 (hiz), 22 66BUFF1/3V66_3 (hiz), 23 66BUFF2/3V66_4 (hiz), 24 66IN/3V66_5 (io), 25 PD# (in) "3.3V LVTTL input for Power_Down# (active LOW). Do not add any decoupling capacitors. Use an external 1.0-Kohm pull-up resistor.", 28 VTTPWRGD# (in) "3.3V LVTTL input is a level-sensitive strobe used to determine when S[1:2] and MULT0 inputs are valid and OK to be sampled (Active LOW). Once VTTPWRGD# is sampled LOW, the status of this output will be ignored.", 29 SDATA (in) "SMBus-compatible SDATA", 30 SCLK (in) "SMBus-compatible Sclk", 33 3V66_0 (hiz) "3.3V 66 MHz clock output", 34 PCI_STOP# (in) "3.3V LVTTL input for PCI_STOP# (active LOW)", 35 3V66_1/VCH (hiz) "3.3V selectable through SMBus to be 66 MHz or 48 MHz", 38 DOT (hiz) "Fixed 48 MHz clock output", 39 USB (hiz) "Fixed 48 MHz clock output", 40 S2 (in) "Special 3.3V 3-level input for Mode selection", 42 IREF (in) "A precision resistor is attached to this pin which is connected to the internal current reference", 43 MULT0 (in) "3.3V LVTTL input for selecting the current multiplier for the CPU outputs", 44 CPU2# (hiz) "Differential CPU clock outputs", 45 CPU2 (hiz) "Differential CPU clock outputs", 48 CPU1# (hiz) "Differential CPU clock outputs", 49 CPU1 (hiz) "Differential CPU clock outputs", 51 CPU0# (hiz) "Differential CPU clock outputs", 52 CPU0 (hiz) "Differential CPU clock outputs", 53 CPU3# (hiz) "Differential CPU clock outputs", 54 CPU3 (hiz) "Differential CPU clock outputs", 55 S1 (in) "3.3V LVTTL inputs for CPU frequency selection", 56 REF (hiz) "3.3V 14.318 MHz clock output"
part B pins: 1 VDD_REF (power) "3.3V power supply for outputs", 4 GND_REF (power) "Ground for outputs", 8 VDD_PCI (power) "3.3V power supply for outputs", 9 GND_PCI (power) "Ground for outputs", 14 VDD_PCI (power) "3.3V power supply for outputs", 15 GND_PCI (power) "Ground for outputs", 19 VDD_3V66 (power) "3.3V power supply for outputs", 20 GND_3V66 (power) "Ground for outputs", 26 VDD_CORE (power) "3.3V power supply for PLL", 27 GND_CORE (power) "Ground for PLL", 31 GND_3V66 (power) "Ground for outputs", 32 VDD_3V66 (power) "3.3V power supply for outputs", 36 GND_ 48MHz (power) "Ground for outputs", 37 VDD_ 48 MHz (power) "3.3V power supply for outputs", 41 GND_IREF (power) "Ground for outputs", 46 VDD_CPU (power) "3.3V power supply for outputs", 47 GND_CPU (power) "Ground for outputs", 50 VDD_CPU (power) "3.3V power supply for outputs"

## CY28329ZXCT
designator U?
Spread Spectrum Clock Synthesizer / Driver with Differential CPU Outputs, 3.3 V, 133 MHz Max Output, 0 to 70 degC, 56-pin SOP, Tape and Reel; Manufacturer: Silicon Labs; PartNumber: CY28329ZXCT; Output Format: LVCMOS; HCSL; Output Frequency (MHz): 14.318 ; 33 ; 48 ; 66 ; 100 to 133; Phase Jitter (RMS): > 1 ps; Reference Inputs: 1; VDD: 3.3 V; Sub-Family: Clock Generators; DatasheetVersion: Rev. *E; PackageReference: TSSOP-56; PackageDescription: 56-Pin Thin Shrink Small-Outline Package, Body 14 x 6.1 mm, Pitch 0.5 mm; Supplier 1: Digi-Key; Supplier Part Number 1: SLCY28329ZXCT-ND; Supplier 2: Mouser; Supplier Part Number 2: 634-CY28329ZXCT; Packing: Tape and Reel; Mounting Technology: Surface Mount; Code_JEDEC: MO-153; ComponentLink1Description: Manufacturer URL; ComponentLink1URL: http://www.silabs.com/; ComponentLink2Description: Datasheet; ComponentLink2URL: http://www.silabs.com/Support%20Documents/TechnicalDocs/CY28329.pdf; ComponentLink3Description: Package Specification; ComponentLink3URL: http://www.silabs.com/Support%20Documents/TechnicalDocs/CY28346-2.pdf
footprint SLAB-TSSOP-56_N (SOP, 56-Leads, Body 14.1x6.2mm, Pitch 0.5mm, IPC Medium Density)
footprint SLAB-TSSOP-56_L (SOP, 56-Leads, Body 14.1x6.2mm, Pitch 0.5mm, IPC High Density)
footprint SLAB-TSSOP-56_M (SOP, 56-Leads, Body 14.1x6.2mm, Pitch 0.5mm, IPC Low Density)
part A pins: 2 XTAL_IN "14.318 MHz crystal input", 3 XTAL_OUT "14.318 MHz crystal input", 5 PCI_F0 (hiz) "33 MHz clocks divided down from 66Input or divided down from 3V66", 6 PCI_F1 (hiz) "34 MHz clocks divided down from 66Input or divided down from 3V66", 7 PCI_F2 (hiz) "35 MHz clocks divided down from 66Input or divided down from 3V66", 10 PCI0 (hiz) "PCI clock outputs divided down from 66Input or divided down from 3V66", 11 PCI1 (hiz) "PCI clock outputs divided down from 66Input or divided down from 3V66", 12 PCI2 (hiz) "PCI clock outputs divided down from 66Input or divided down from 3V66", 13 PCI3 (hiz) "PCI clock outputs divided down from 66Input or divided down from 3V66", 16 PCI4 (hiz) "PCI clock outputs divided down from 66Input or divided down from 3V66", 17 PCI5 (hiz) "PCI clock outputs divided down from 66Input or divided down from 3V66", 18 PCI6 (hiz) "PCI clock outputs divided down from 66Input or divided down from 3V66", 21 66BUFF0/3V66_2 (hiz), 22 66BUFF1/3V66_3 (hiz), 23 66BUFF2/3V66_4 (hiz), 24 66IN/3V66_5 (io), 25 PD# (in) "3.3V LVTTL input for Power_Down# (active LOW). Do not add any decoupling capacitors. Use an external 1.0-Kohm pull-up resistor.", 28 VTTPWRGD# (in) "3.3V LVTTL input is a level-sensitive strobe used to determine when S[1:2] and MULT0 inputs are valid and OK to be sampled (Active LOW). Once VTTPWRGD# is sampled LOW, the status of this output will be ignored.", 29 SDATA (in) "SMBus-compatible SDATA", 30 SCLK (in) "SMBus-compatible Sclk", 33 3V66_0 (hiz) "3.3V 66 MHz clock output", 34 PCI_STOP# (in) "3.3V LVTTL input for PCI_STOP# (active LOW)", 35 3V66_1/VCH (hiz) "3.3V selectable through SMBus to be 66 MHz or 48 MHz", 38 DOT (hiz) "Fixed 48 MHz clock output", 39 USB (hiz) "Fixed 48 MHz clock output", 40 S2 (in) "Special 3.3V 3-level input for Mode selection", 42 IREF (in) "A precision resistor is attached to this pin which is connected to the internal current reference", 43 MULT0 (in) "3.3V LVTTL input for selecting the current multiplier for the CPU outputs", 44 CPU2# (hiz) "Differential CPU clock outputs", 45 CPU2 (hiz) "Differential CPU clock outputs", 48 CPU1# (hiz) "Differential CPU clock outputs", 49 CPU1 (hiz) "Differential CPU clock outputs", 51 CPU0# (hiz) "Differential CPU clock outputs", 52 CPU0 (hiz) "Differential CPU clock outputs", 53 CPU3# (hiz) "Differential CPU clock outputs", 54 CPU3 (hiz) "Differential CPU clock outputs", 55 S1 (in) "3.3V LVTTL inputs for CPU frequency selection", 56 REF (hiz) "3.3V 14.318 MHz clock output"
part B pins: 1 VDD_REF (power) "3.3V power supply for outputs", 4 GND_REF (power) "Ground for outputs", 8 VDD_PCI (power) "3.3V power supply for outputs", 9 GND_PCI (power) "Ground for outputs", 14 VDD_PCI (power) "3.3V power supply for outputs", 15 GND_PCI (power) "Ground for outputs", 19 VDD_3V66 (power) "3.3V power supply for outputs", 20 GND_3V66 (power) "Ground for outputs", 26 VDD_CORE (power) "3.3V power supply for PLL", 27 GND_CORE (power) "Ground for PLL", 31 GND_3V66 (power) "Ground for outputs", 32 VDD_3V66 (power) "3.3V power supply for outputs", 36 GND_ 48MHz (power) "Ground for outputs", 37 VDD_ 48 MHz (power) "3.3V power supply for outputs", 41 GND_IREF (power) "Ground for outputs", 46 VDD_CPU (power) "3.3V power supply for outputs", 47 GND_CPU (power) "Ground for outputs", 50 VDD_CPU (power) "3.3V power supply for outputs"

## CY28346OC
designator U?
Clock Synthesizer with Differential CPU Outputs, 3.3 V, 200 MHz Max Output, 0 to 70 degC, 56-pin SOP, Tube; Manufacturer: Silicon Labs; PartNumber: CY28346OC; Output Format: LVCMOS; HCSL; Output Frequency (MHz): 14.318 ; 33 ; 48 ; 66 ; 66 to 200; Phase Jitter (RMS): > 1 ps; Reference Inputs: 1; VDD: 3.3 V; Sub-Family: Clock Generators; DatasheetVersion: Rev. *C; PackageReference: SSOP-56; PackageDescription: 56-Pin Shrink Small-Outline Package, Body 18.415 x 7.51 mm, Pitch 0.635 mm; Packing: Tube; Mounting Technology: Surface Mount; ComponentLink1Description: Manufacturer URL; ComponentLink1URL: http://www.silabs.com/; ComponentLink2Description: Datasheet; ComponentLink2URL: http://www.silabs.com/Support%20Documents/TechnicalDocs/CY28346.pdf; ComponentLink3Description: Package Specification; ComponentLink3URL: http://www.silabs.com/Support%20Documents/TechnicalDocs/W158.pdf
footprint SLAB-SSOP-56_N (SOP, 56-Leads, Body 18.5x7.6mm, Pitch 0.635mm, IPC Medium Density)
footprint SLAB-SSOP-56_L (SOP, 56-Leads, Body 18.5x7.6mm, Pitch 0.635mm, IPC High Density)
footprint SLAB-SSOP-56_M (SOP, 56-Leads, Body 18.5x7.6mm, Pitch 0.635mm, IPC Low Density)
part A pins: 2 XIN (in) "Oscillator Buffer Input", 3 XOUT "Oscillator Buffer Output", 5 PCIF0 (hiz) "33MHz PCI Clocks.", 6 PCIF1 (hiz) "33MHz PCI Clocks.", 7 PCIF2 (hiz) "33MHz PCI Clocks.", 10 PCI0 (hiz) "PCI Clock Outputs", 11 PCI1 (hiz) "PCI Clock Outputs", 12 PCI2 (hiz) "PCI Clock Outputs", 13 PCI3 (hiz) "PCI Clock Outputs", 16 PCI4 (hiz) "PCI Clock Outputs", 17 PCI5 (hiz) "PCI Clock Outputs", 18 PCI6 (hiz) "PCI Clock Outputs", 21 66B0/3V66_2 (hiz) "3.3V Clock Outputs", 22 66B1/3V66_3 (hiz) "3.3V Clock Outputs", 23 66B2/3V66_4 (hiz) "3.3V Clock Outputs", 24 66IN/3V66_5 (io) "3.3V Clock Outputs", 25 PD# (in) "Power-down Mode Pin", 28 VTT_PG# (in) "Qualifying Input that Latches S(0:2) and MULT0", 29 SDATA (io) "Serial Data Input", 30 SCLK (in) "Serial Clock Input", 33 3V66_0 (hiz) "3.3V 66 MHz Fixed-frequency Clock.", 34 PCI_STP# (in) "PCI Clock Disable Input", 35 3V66_1/VCH (hiz) "3.3V Clock Selectable with SMBus Byte0,Bit5, When Byte5,Bit5.", 38 48MDOT (hiz) "Fixed 48 MHZ DOT Clock Outputs", 39 48MUSB (hiz) "Fixed 48 MHz USB Clock Outputs", 40 S2 (in) "Frequency Select Input.", 42 IREF (in) "Current Reference Programming Input for CPU Buffers", 43 MULT0 (in) "Programming Input Selection for CPU Clock Current Multiplier.", 44 CPUC2 (hiz) "Differential Host Output Clock Pairs.", 45 CPUT2 (hiz) "Differential Host Output Clock Pairs.", 48 CPUC1 (hiz) "Differential Host Output Clock Pairs.", 49 CPUT1 (hiz) "Differential Host Output Clock Pairs.", 51 CPUC0 (hiz) "Differential Host Output Clock Pairs.", 52 CPUT0 (hiz) "Differential Host Output Clock Pairs.", 53 CPU_STP# (in) "CPU Clock Disable Input", 54 S0 (in) "Frequency Select Inputs", 55 S1 (in) "Frequency Select Inputs", 56 REF (hiz) "Buffered Output Copy of the Device’s XIN Clock."
part B pins: 1 VDD (power) "3.3V Power Supply", 4 VSS (power) "Common Ground.", 8 VDD (power) "3.3V Power Supply", 9 VSS (power) "Common Ground.", 14 VDD (power) "3.3V Power Supply", 15 VSS (power) "Common Ground.", 19 VDD (power) "3.3V Power Supply", 20 VSS (power) "Common Ground.", 26 VDDA (power) "Analog Power Input.", 27 VSSA (power) "Common Ground.", 31 VSS (power) "Common Ground.", 32 VDD (power) "3.3V Power Supply", 36 VSS (power) "Common Ground.", 37 VDD (power) "3.3V Power Supply", 41 VSSIREF (power) "Current Reference Programming Input for CPU Buffers", 46 VDD (power) "3.3V Power Supply", 47 VSS (power) "Common Ground.", 50 VDD (power) "3.3V Power Supply"